# Altium schematic symbol library pyptec-Schlib_jp.SchLib: 316 symbols (part 2 of 7)
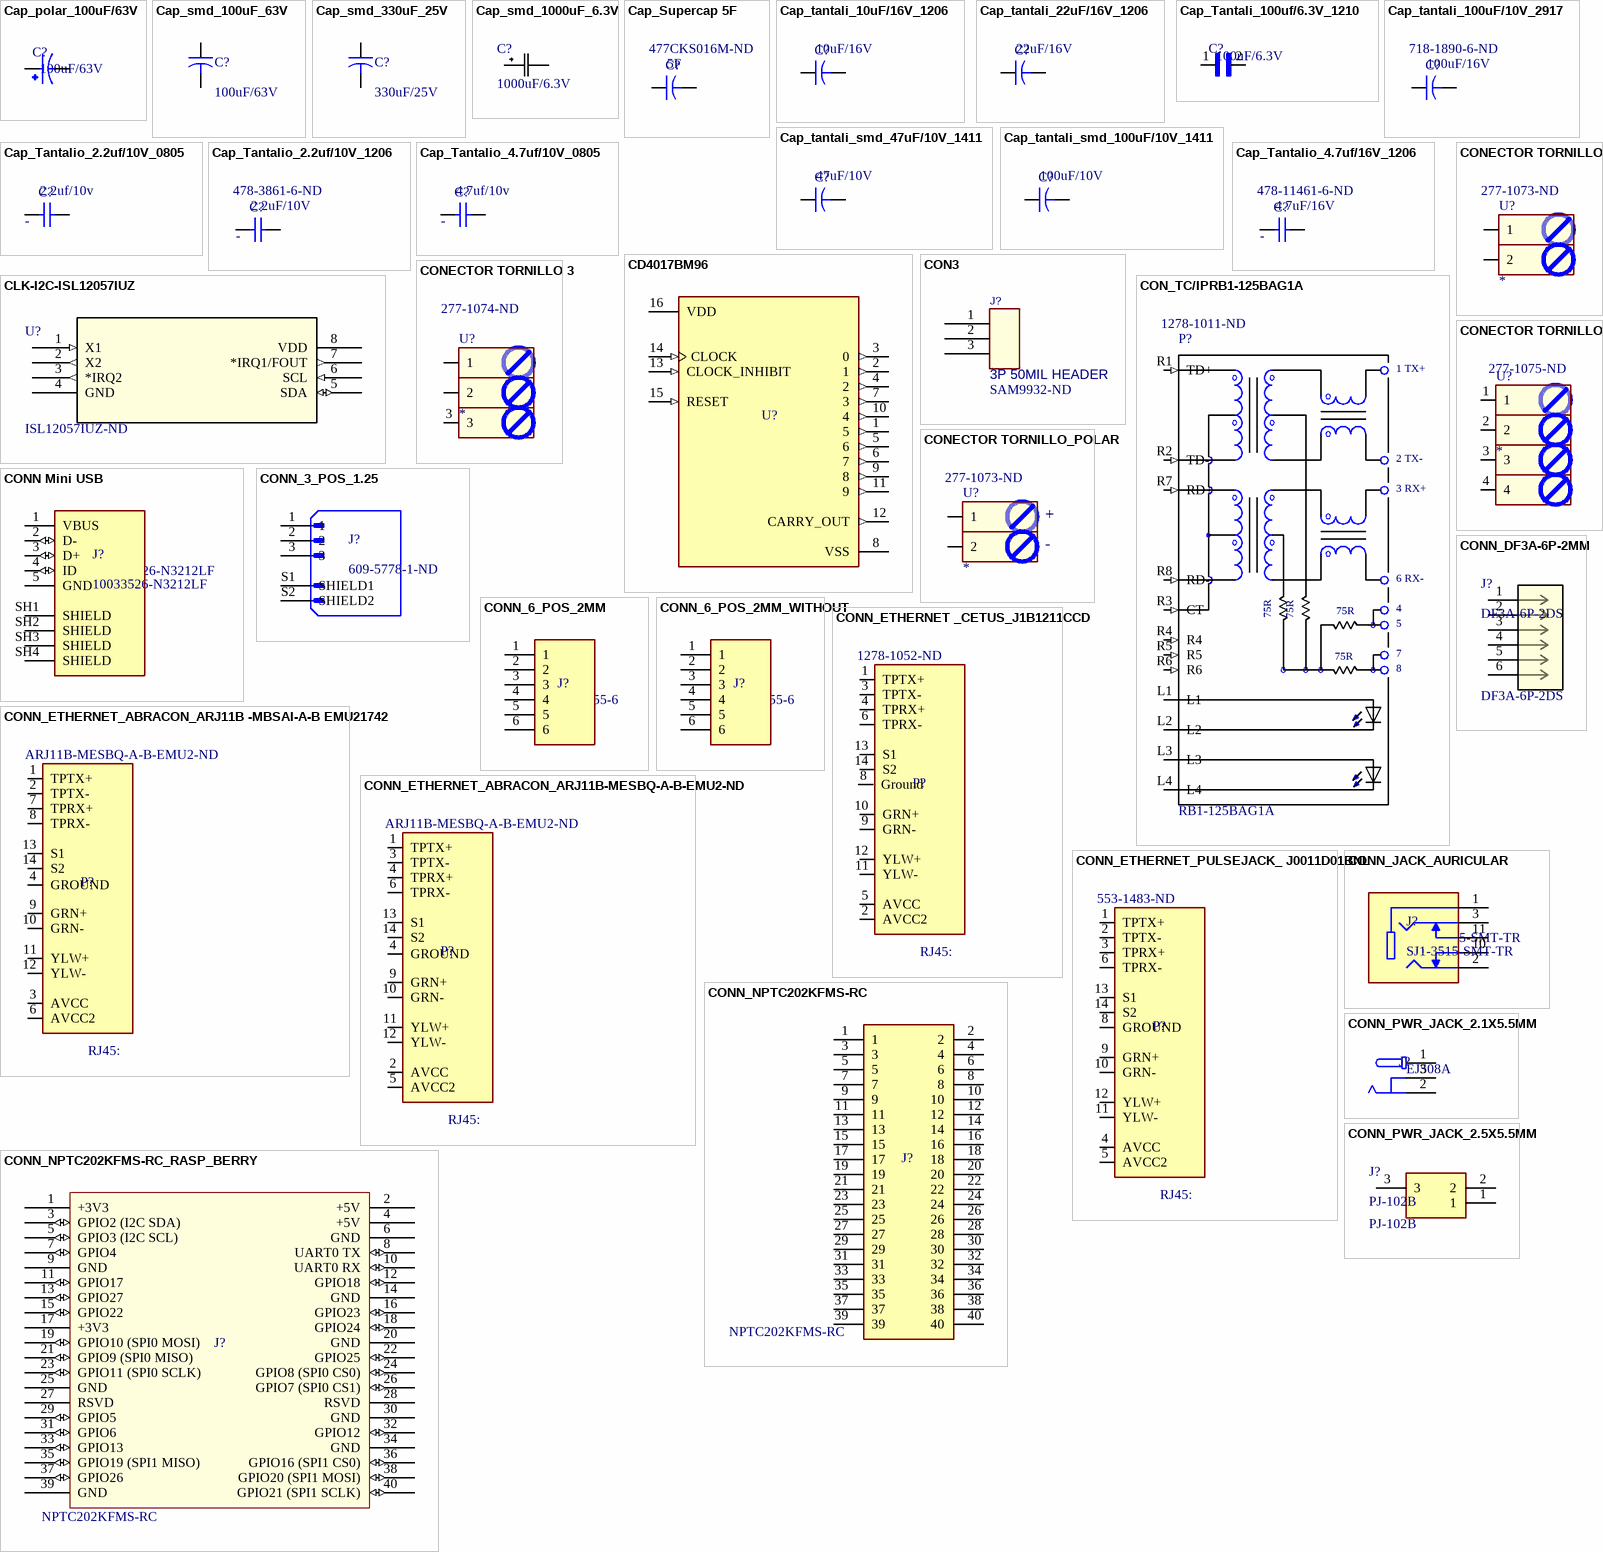
[diagram p11: symbols Cap_polar_100uF/63V to CONN_PWR_JACK_2.5X5.5MM]

## CLK-I2C-ISL12057IUZ
designator U?, comment value ISL12057IUZ-ND  (hidden comment: ISL12057IUZ)
Relojes de tiempo real (RTC) IC Reloj/calendario I2C, 2-Wire serial 8-TSSOP, 8-MSOP (0.118", 3.00mm de ancho); Mfr_Name: Renesas / Intersil; RefDes: RefDes; Type: Type; ComponentLink1Description: IC RTC CLK/CALENDAR I2C 8MSOP; ComponentLink1URL: https://www.digikey.com/es/products/detail/renesas-electronics-corporation/ISL12057IUZ/2096552; Link: https://www.digikey.com/es/products/detail/renesas-electronics-corporation/ISL12057IUZ/2096552; Digi_Key_Part_Number: ISL12057IUZ-ND; Price: 2,78
footprint 8L-MSOP_REN
pins: 1 X1 (in), 2 X2 (out), 3 *IRQ2 (out), 4 GND (power), 5 SDA (io), 6 SCL (in), 7 *IRQ1/FOUT (out), 8 VDD (power)

## CON3
designator J?, comment 3P 50MIL HEADER  Supplier Part Number 1: SAM9932-ND
COMPSIDE: TOP; COMPLOC: [730.000,710.000]; COMPROT: 0; COMPFIXED: NO; COMPHEIGHT: 0.000; COMPGROUP: 0; COMPLOCKED: NO; COMPKEY: NO; DECOUPLER: NO; MEMORY: NO; Supplier 1: Digi-Key
footprint 3P 50 MIL HEADER_RDS
pins: 1, 2, 3

## CON_TC/IPRB1-125BAG1A
designator P?, comment RB1-125BAG1A  Supplier Part Number 1: 1278-1011-ND
Accessory RJ-45 With Transformer Connector - UDE; MF: WIZnet; Shielding: Shielded; Connector Type: RJ45; Number of Ports: 1; Direction: Down; Number of Positions: 8; Insulation Resistance: 500MR; Number of Cores per Jack: 4; Availability: Unavailable; Price: None; Package: HVQFN-36 NXP Semiconductors; SnapEDA_Link: https://www.snapeda.com/parts/RB1-125BAG1A/WIZnet/view-part/?ref=snap; MP: RB1-125BAG1A; Value: *; Supplier 1: Digi-Key; Manufacturer: WIZnet; Manufacturer Part Number: RB1-125BAG1A; Stock 1: 11611; Pricing 1: 1=2.55, 10=2.448, 25=2.244, 50=2.142, 100=2.04, 250=1.785, 500=1.734, 1000=1.56 (USD); Mount: Through Hole; Case/Package: 100; Color: Green,Yellow,Black; Contact Material: Bronze; Contact Plating: Gold; Housing Material: Thermoplastic; Min Operating Temperature: 0°C; Max Operating Temperature: 70°C; Number of Rows: 1; Packaging: Bulk; Package Quantity: 420; Termination: Solder; Lead Free: Lead Free; ComponentLink1URL: http://www1.futureelectronics.com/doc/WIZNET%20INC/RB1-125BAG1A.pdf?src-supplier=Future+Electronics; ComponentLink1Description: http://www1.futureelectronics.com/doc/WIZNET%20INC/RB1-125BAG1A.pdf?src-supplier=Future+Electronics; ComponentLink2URL: http://www.jameco.com/Jameco/Products/ProdDS/2132875.pdf?src-supplier=Jameco; ComponentLink2Description: http://www.jameco.com/Jameco/Products/ProdDS/2132875.pdf?src-supplier=Jameco; ComponentLink3URL: https://www.shopwiznet.com/lanotattachments/download/file/id/95/store/1/?src-supplier=Digi-Key; ComponentLink3Description: https://www.shopwiznet.com/lanotattachments/download/file/id/95/store/1/?src-supplier=Digi-Key; ComponentLink4URL: http://www.mouser.com/ds/2/443/RB1-125BAG1A(111-00)-224696.pdf?src-supplier=Mouser; ComponentLink4Description: http://www.mouser.com/ds/2/443/RB1-125BAG1A(111-00)-224696.pdf?src-supplier=Mouser
footprint J1B1211CCD
pins: L1, L2, L3, L4, R1 TD+ (in), R2 TD- (in), R3 CT (in), R4 (in), R5 (in), R6 (in), R7 RD+ (in), R8 RD- (in)
text: 1 TX+; 2 TX-; 3 RX+; 6 RX-; 75R; 5; 7

## CONECTOR TORNILLO 2
designator U?  Supplier Part Number 1: 277-1073-ND
Manufacturer: Phoenix Contact; Manufacturer Part Number: 1753437; Current Rating: 12A; Voltage Rating: 250V; Number of Positions: 2; Number of Levels: 1; Voltage: 300V; Voltage Rating (DC): 400V; Pitch: 5mm; Approvals: UL,CSA; Supplier 1: Digi-Key; Stock 1: 7580; Pricing 1: 1=0.72, 10=0.688, 50=0.6584, 100=0.6404, 250=0.59852, 500=0.55062, 1000=0.50873, 2500=0.48479, 5000=0.45486 (USD); Mount: Through Hole; Weight: 0.037778oz; Color: Grey,Green; Contact Plating: Tin; Contact Material: Copper,Tin; Housing Color: Green; Housing Material: Polybutylene; Number of Rows: 1; Package Quantity: 50; Packaging: Bulk; Termination: Solder; Number of Positions Per Level: 2; Current: 12A; Max Current Rating: 12A; Number of Contacts: 2; Orientation: Straight; Number of Poles: 2; Length: 10mm; Height: 10mm; Width: 15.9mm; Depth: 8.6mm; Lead Free: Lead Free; Flammability Rating: UL94 V-0; ComponentLink1URL: https://www.verical.com/server-webapp/html/getDatasheet?partID=294641&src-supplier=Verical; ComponentLink1Description: https://www.verical.com/server-webapp/html/getDatasheet?partID=294641&src-supplier=Verical; ComponentLink2URL: https://media.digikey.com/pdf/Data%20Sheets/Phoenix%20Contact%20PDFs/1753437.pdf?src-supplier=Digi-Key; ComponentLink2Description: https://media.digikey.com/pdf/Data%20Sheets/Phoenix%20Contact%20PDFs/1753437.pdf?src-supplier=Digi-Key; ComponentLink3URL: https://produktinfo.conrad.com/datenblaetter/725000-749999/743815-da-01-en-GRUNDGEHAEUSE__MSTBV_2_5__2_G.pdf?src-supplier=Conrad; ComponentLink3Description: https://produktinfo.conrad.com/datenblaetter/725000-749999/743815-da-01-en-GRUNDGEHAEUSE__MSTBV_2_5__2_G.pdf?src-supplier=Conrad
footprint 277-1140 (TERM BLOCK 2POS)
pins: 1, 2

## CONECTOR TORNILLO 3
designator U?  Supplier Part Number 1: 277-1074-ND
Manufacturer: Phoenix Contact; Manufacturer Part Number: 1753437; Current Rating: 12A; Voltage Rating: 250V; Number of Positions: 2; Number of Levels: 1; Voltage: 300V; Voltage Rating (DC): 400V; Pitch: 5mm; Approvals: UL,CSA; Mount: Through Hole; Weight: 0.037778oz; Color: Grey,Green; Contact Plating: Tin; Contact Material: Copper,Tin; Housing Color: Green; Housing Material: Polybutylene; Number of Rows: 1; Package Quantity: 50; Packaging: Bulk; Termination: Solder; Number of Positions Per Level: 2; Current: 12A; Max Current Rating: 12A; Number of Contacts: 2; Orientation: Straight; Number of Poles: 2; Length: 10mm; Height: 10mm; Width: 15.9mm; Depth: 8.6mm; Lead Free: Lead Free; Flammability Rating: UL94 V-0; ComponentLink1URL: https://www.verical.com/server-webapp/html/getDatasheet?partID=294641&src-supplier=Verical; ComponentLink1Description: https://www.verical.com/server-webapp/html/getDatasheet?partID=294641&src-supplier=Verical; ComponentLink2URL: https://media.digikey.com/pdf/Data%20Sheets/Phoenix%20Contact%20PDFs/1753437.pdf?src-supplier=Digi-Key; ComponentLink2Description: https://media.digikey.com/pdf/Data%20Sheets/Phoenix%20Contact%20PDFs/1753437.pdf?src-supplier=Digi-Key; ComponentLink3URL: https://produktinfo.conrad.com/datenblaetter/725000-749999/743815-da-01-en-GRUNDGEHAEUSE__MSTBV_2_5__2_G.pdf?src-supplier=Conrad; ComponentLink3Description: https://produktinfo.conrad.com/datenblaetter/725000-749999/743815-da-01-en-GRUNDGEHAEUSE__MSTBV_2_5__2_G.pdf?src-supplier=Conrad; Supplier 1: Digi-Key; Stock 1: 2384; Pricing 1: 1=1.06, 10=1.014, 50=0.9702, 100=0.9437, 250=0.882, 500=0.81144, 1000=0.7497, 2500=0.71442, 5000=0.67032 (USD); ComponentLink4URL: https://media.digikey.com/pdf/Data%20Sheets/Phoenix%20Contact%20PDFs/1753453.pdf?src-supplier=Digi-Key; ComponentLink4Description: https://media.digikey.com/pdf/Data%20Sheets/Phoenix%20Contact%20PDFs/1753453.pdf?src-supplier=Digi-Key; ComponentLink5URL: https://www.alliedelec.com/m/d/04bf1952d21caef77442e0e02da47893.pdf?src-supplier=Allied+Electronics; ComponentLink5Description: https://www.alliedelec.com/m/d/04bf1952d21caef77442e0e02da47893.pdf?src-supplier=Allied+Electronics; ComponentLink6URL: https://produktinfo.conrad.com/datenblaetter/725000-749999/743827-da-01-en-GRUNDGEHAEUSE__MSTBV_2_5__3_G.pdf?src-supplier=Conrad; ComponentLink6Description: https://produktinfo.conrad.com/datenblaetter/725000-749999/743827-da-01-en-GRUNDGEHAEUSE__MSTBV_2_5__3_G.pdf?src-supplier=Conrad
footprint 277-1141 (TERM BLOCK HDR 3POS)
pins: 1, 2, 3

## CONECTOR TORNILLO 4
designator U?  Supplier Part Number 1: 277-1075-ND
Manufacturer: Phoenix Contact; Manufacturer Part Number: 1753437; Current Rating: 12A; Voltage Rating: 250V; Number of Positions: 2; Number of Levels: 1; Voltage: 300V; Voltage Rating (DC): 400V; Pitch: 5mm; Approvals: UL,CSA; Mount: Through Hole; Weight: 0.037778oz; Color: Grey,Green; Contact Plating: Tin; Contact Material: Copper,Tin; Housing Color: Green; Housing Material: Polybutylene; Number of Rows: 1; Package Quantity: 50; Packaging: Bulk; Termination: Solder; Number of Positions Per Level: 2; Current: 12A; Max Current Rating: 12A; Number of Contacts: 2; Orientation: Straight; Number of Poles: 2; Length: 10mm; Height: 10mm; Width: 15.9mm; Depth: 8.6mm; Lead Free: Lead Free; Flammability Rating: UL94 V-0; ComponentLink1URL: https://www.verical.com/server-webapp/html/getDatasheet?partID=294641&src-supplier=Verical; ComponentLink1Description: https://www.verical.com/server-webapp/html/getDatasheet?partID=294641&src-supplier=Verical; ComponentLink2URL: https://media.digikey.com/pdf/Data%20Sheets/Phoenix%20Contact%20PDFs/1753437.pdf?src-supplier=Digi-Key; ComponentLink2Description: https://media.digikey.com/pdf/Data%20Sheets/Phoenix%20Contact%20PDFs/1753437.pdf?src-supplier=Digi-Key; ComponentLink3URL: https://produktinfo.conrad.com/datenblaetter/725000-749999/743815-da-01-en-GRUNDGEHAEUSE__MSTBV_2_5__2_G.pdf?src-supplier=Conrad; ComponentLink3Description: https://produktinfo.conrad.com/datenblaetter/725000-749999/743815-da-01-en-GRUNDGEHAEUSE__MSTBV_2_5__2_G.pdf?src-supplier=Conrad; ComponentLink4URL: https://www.verical.com/server-webapp/html/getDatasheet?partID=247903&src-supplier=Verical; ComponentLink4Description: https://www.verical.com/server-webapp/html/getDatasheet?partID=247903&src-supplier=Verical; ComponentLink5URL: https://media.digikey.com/pdf/Data%20Sheets/Phoenix%20Contact%20PDFs/1754478.pdf?src-supplier=Digi-Key; ComponentLink5Description: https://media.digikey.com/pdf/Data%20Sheets/Phoenix%20Contact%20PDFs/1754478.pdf?src-supplier=Digi-Key; ComponentLink6URL: https://produktinfo.conrad.com/datenblaetter/725000-749999/743854-da-01-en-GRUNDGEHAEUSE__MSTB_2_5__4_G.pdf?src-supplier=Conrad; ComponentLink6Description: https://produktinfo.conrad.com/datenblaetter/725000-749999/743854-da-01-en-GRUNDGEHAEUSE__MSTB_2_5__4_G.pdf?src-supplier=Conrad; Supplier 1: Digi-Key; Stock 1: 3061; Pricing 1: 1=1.45, 10=1.389, 50=1.3282, 100=1.292, 250=1.20752, 500=1.1109, 1000=1.02637, 2500=0.97807, 5000=0.9177 (USD); ComponentLink7URL: https://media.digikey.com/pdf/Data%20Sheets/Phoenix%20Contact%20PDFs/1753479.pdf?src-supplier=Digi-Key; ComponentLink7Description: https://media.digikey.com/pdf/Data%20Sheets/Phoenix%20Contact%20PDFs/1753479.pdf?src-supplier=Digi-Key; ComponentLink8URL: https://www.verical.com/server-webapp/html/getDatasheet?partID=717945&src-supplier=Verical; ComponentLink8Description: https://www.verical.com/server-webapp/html/getDatasheet?partID=717945&src-supplier=Verical; ComponentLink9URL: https://produktinfo.conrad.com/datenblaetter/725000-749999/743463-da-01-en-GRUNDGEHAEUSE___MSTBV_2_5__4_G.pdf?src-supplier=Conrad; ComponentLink9Description: https://produktinfo.conrad.com/datenblaetter/725000-749999/743463-da-01-en-GRUNDGEHAEUSE___MSTBV_2_5__4_G.pdf?src-supplier=Conrad
footprint 277-1075 (TERM BLOCK HDR 3POS)
pins: 1, 2, 3, 4

## CONECTOR TORNILLO_POLAR
designator U?  Supplier Part Number 1: 277-1073-ND
Manufacturer: Phoenix Contact; Manufacturer Part Number: 1753437; Current Rating: 12A; Voltage Rating: 250V; Number of Positions: 2; Number of Levels: 1; Voltage: 300V; Voltage Rating (DC): 400V; Pitch: 5mm; Approvals: UL,CSA; Supplier 1: Digi-Key; Stock 1: 7580; Pricing 1: 1=0.72, 10=0.688, 50=0.6584, 100=0.6404, 250=0.59852, 500=0.55062, 1000=0.50873, 2500=0.48479, 5000=0.45486 (USD); Mount: Through Hole; Weight: 0.037778oz; Color: Grey,Green; Contact Plating: Tin; Contact Material: Copper,Tin; Housing Color: Green; Housing Material: Polybutylene; Number of Rows: 1; Package Quantity: 50; Packaging: Bulk; Termination: Solder; Number of Positions Per Level: 2; Current: 12A; Max Current Rating: 12A; Number of Contacts: 2; Orientation: Straight; Number of Poles: 2; Length: 10mm; Height: 10mm; Width: 15.9mm; Depth: 8.6mm; Lead Free: Lead Free; Flammability Rating: UL94 V-0; ComponentLink1URL: https://www.verical.com/server-webapp/html/getDatasheet?partID=294641&src-supplier=Verical; ComponentLink1Description: https://www.verical.com/server-webapp/html/getDatasheet?partID=294641&src-supplier=Verical; ComponentLink2URL: https://media.digikey.com/pdf/Data%20Sheets/Phoenix%20Contact%20PDFs/1753437.pdf?src-supplier=Digi-Key; ComponentLink2Description: https://media.digikey.com/pdf/Data%20Sheets/Phoenix%20Contact%20PDFs/1753437.pdf?src-supplier=Digi-Key; ComponentLink3URL: https://produktinfo.conrad.com/datenblaetter/725000-749999/743815-da-01-en-GRUNDGEHAEUSE__MSTBV_2_5__2_G.pdf?src-supplier=Conrad; ComponentLink3Description: https://produktinfo.conrad.com/datenblaetter/725000-749999/743815-da-01-en-GRUNDGEHAEUSE__MSTBV_2_5__2_G.pdf?src-supplier=Conrad
footprint 277-1140 (TERM BLOCK 2POS)
pins: 1, 2
text: +; -

## CONN Mini USB
designator J?, comment 10033526-N3212LF
MINI USB 2.0- B Type Receptacle conn. Right Angle Surface Mount Type; Digi_Key_Part_Number: 609-4700-1-ND; SnapEDA_Link: https://www.snapeda.com/parts/10033526-N3212LF/Amphenol+FCI/view-part/?ref=snap; Price: 0,75; MP: 10033526-N3212LF; Link: https://www.digikey.com/en/products/detail/amphenol-cs-fci/10033526-N3212LF/4292074?s=N4IgTCBcDaIIwAYEGZkFYwDYC0A5ZYcYAMgGIgC6AvkA; ComponentLink1Description: CONN RCPT MINI USB B 5POS SMD RA; ComponentLink1URL: https://www.digikey.com/en/products/detail/amphenol-cs-fci/10033526-N3212LF/4292074?s=N4IgTCBcDaIIwAYEGZkFYwDYC0A5ZYcYAMgGIgC6AvkA; Value: 10033526-N3212LF
footprint AMPHENOL_10033526-N3212LF
pins: 1 VBUS (power), 2 D- (io), 3 D+ (io), 4 ID (io), 5 GND (power), SH1 SHIELD, SH2 SHIELD, SH3 SHIELD, SH4 SHIELD

## CONN_3_POS_1.25
designator J?, comment 609-5778-1-ND
Cabezal de conector Montaje en superficie, ángulo recto 3 posiciones 0.049" (1.25mm); MF: Molex; MP: 532610371; Check_prices: https://www.snapeda.com/parts/532610371/Molex/view-part/?ref=eda; Value: *; Price: None; Package: None; Availability: In Stock; Purchase-URL: https://pricing.snapeda.com/search/part/532610371/?ref=eda; SnapEDA_Link: https://www.snapeda.com/parts/532610371/Molex/view-part/?ref=snap; ComponentLink1Description: CONN HEADER SMD R/A 3POS 1.25MM; ComponentLink1URL: https://www.digikey.com/es/products/detail/amphenol-cs-fci/10114830-10103LF/4238857; Link: https://www.digikey.com/es/products/detail/amphenol-cs-fci/10114830-10103LF/4238857; Digi_Key_Part_Number: 609-5778-1-ND
footprint MOLEX_532610371
pins: 1, 2, 3, S1 SHIELD1, S2 SHIELD2

## CONN_6_POS_2MM
designator J?, comment 440055-6
Cabezal de conector Orificio pasante, ángulo recto 6 posiciones 0.079" (2.00mm); Digi_Key_Part_Number: A100047-ND; MF: {'manufacturer': 'TE Connectivity'}; Package: None; Availability: Unavailable; MP: 440055-6; Price: 0,29; ComponentLink1Description: CONN HEADER R/A 6POS 2MM; ComponentLink1URL: https://www.digikey.com/es/products/detail/te-connectivity-amp-connectors/440055-6/2077950; Link: https://www.digikey.com/es/products/detail/te-connectivity-amp-connectors/440055-6/2077950; Value: 440055-6
footprint TE_440055-6
pins: 1, 2, 3, 4, 5, 6

## CONN_6_POS_2MM_WITHOUT
designator J?, comment 440055-6
Cabezal de conector Orificio pasante, ángulo recto 6 posiciones 0.079" (2.00mm); Digi_Key_Part_Number: A100047-ND; MF: {'manufacturer': 'TE Connectivity'}; Package: None; Availability: Unavailable; MP: 440055-6; Price: 0,29; ComponentLink1Description: CONN HEADER R/A 6POS 2MM; ComponentLink1URL: https://www.digikey.com/es/products/detail/te-connectivity-amp-connectors/440055-6/2077950; Link: https://www.digikey.com/es/products/detail/te-connectivity-amp-connectors/440055-6/2077950; Value: 440055-6
footprint TE_440055-6WITHOUT
pins: 1, 2, 3, 4, 5, 6

## CONN_DF3A-6P-2MM
designator J?, comment DF3A-6P-2DS
Cabezal de conector Orificio pasante, ángulo recto 6 posiciones 0.079" (2.00mm); Mfr_Name: Hirose; Digi_Key_Part_Number: H3897-ND; RefDes: RefDes; Type: Type; ComponentLink1Description: CONN HEADER R/A 6POS 2MM; ComponentLink1URL: https://www.digikey.com/es/products/detail/hirose-electric-co-ltd/DF3A-6P-2DS/560463; Link: https://www.digikey.com/es/products/detail/hirose-electric-co-ltd/DF3A-6P-2DS/560463; Price: 0,33; Value: DF3A-6P-2DS
footprint CON6_1X6_R_DF3_HIR
pins: 1, 2, 3, 4, 5, 6

## CONN_ETHERNET _CETUS_J1B1211CCD
designator P?, comment 1278-1052-ND
1 Puerto RJ45Orificio pasante 10/100 Base-T, AutoMDIX; MF: Ceetus; MP: J1B1211CCD; Value: *; Package: None; Availability: Warning; Price: None; Supplier 1: Digi-Key; ComponentLink1Description: CONN JACK 1PORT 100 BASE-T PCB; ComponentLink1URL: 1 Puerto RJ45Orificio pasante 10/100 Base-T, AutoMDIX; Link: https://www.digikey.com/es/products/detail/J1B1211CCD/1278-1052-ND/7604176?utm_campaign=buynow&utm_medium=aggregator&curr=usd&utm_source=octopart; Digi-Key_Part_Number: 1278-1052-ND; Supplier Part Number 1: 1278-1052-ND
footprint J1B1211CCD
pins: 1 TPTX+, 2 AVCC2, 3 TPTX-, 4 TPRX+, 5 AVCC, 6 TPRX-, 8 Ground, 9 GRN-, 10 GRN+, 11 YLW-, 12 YLW+, 13 S1, 14 S2

## CONN_ETHERNET_ABRACON_ARJ11B -MBSAI-A-B EMU21742
designator P?, comment Supplier Part Number 1: ARJ11B-MESBQ-A-B-EMU2-ND  (hidden comment: 1278-1052-ND)
1 Puerto RJ45Orificio pasante 10/100 Base-T, AutoMDIX; MF: Abracon LLC; MP: ARJ11B-MBSAI-A-B-EMU2; Value: *; Package: None; Availability: Warning; Price: None; Supplier 1: Digi-Key; ComponentLink1Description: ARJ11B-MBSAI-A-B-EMU2; ComponentLink1URL: https://www.digikey.com/es/products/detail/abracon-llc/ARJ11B-MBSAI-A-B-EMU2/3059354; Link: https://www.digikey.com/es/products/detail/abracon-llc/ARJ11B-MBSAI-A-B-EMU2/3059354; Digi-Key_Part_Number: ARJ11B-MBSAI-A-B-EMU2-ND
footprint J1B1211CCD
pins: 1 TPTX+, 2 TPTX-, 3 AVCC, 4 GROUND, 6 AVCC2, 7 TPRX+, 8 TPRX-, 9 GRN+, 10 GRN-, 11 YLW+, 12 YLW-, 13 S1, 14 S2

## CONN_ETHERNET_ABRACON_ARJ11B-MESBQ-A-B-EMU2-ND
designator P?, comment Supplier Part Number 1: ARJ11B-MESBQ-A-B-EMU2-ND  (hidden comment: 1278-1052-ND)
1 Puerto RJ45Orificio pasante 10/100 Base-T, AutoMDIX; MF: Abracon LLC; MP: ARJ11B-MESBQ-A-B-EMU2; Value: *; Package: None; Availability: Warning; Price: None; ComponentLink1Description: ARJ11B-MESBQ-A-B-EMU2; ComponentLink1URL: https://www.digikey.com/es/products/detail/ARJ11B-MESBQ-A-B-EMU2/ARJ11B-MESBQ-A-B-EMU2-ND/3059340?utm_campaign=buynow&utm_medium=aggregator&curr=usd&utm_source=octopart; Digi-Key_Part_Number: ARJ11B-MESBQ-A-B-EMU2-ND; Link: https://www.digikey.com/es/products/detail/ARJ11B-MESBQ-A-B-EMU2/ARJ11B-MESBQ-A-B-EMU2-ND/3059340?utm_campaign=buynow&utm_medium=aggregator&curr=usd&utm_source=octopart
footprint J1B1211CCD
pins: 1 TPTX+, 2 AVCC, 3 TPTX-, 4 TPRX+, 4 GROUND, 5 AVCC2, 6 TPRX-, 9 GRN+, 10 GRN-, 11 YLW+, 12 YLW-, 13 S1, 14 S2

## CONN_ETHERNET_PULSEJACK_ J0011D01BNL
designator P?, comment Supplier Part Number 1: 553-1483-ND  (hidden comment: 1278-1052-ND)
1 Puerto RJ45Orificio pasante 10/100 Base-T, AutoMDIX; MF: Ceetus; MP: J1B1211CCD; Value: *; Package: None; Availability: Warning; SnapEDA_Link: https://www.snapeda.com/parts/J1B1211CCD/Cetus/view-part/561300/?ref=snap; Mouser-Purchase-URL: https://snapeda.com/shop?store=Mouser&id=561300; Price: None; Supplier 1: Digi-Key; Digi-Key_Part_Number: 553-1483-ND; Link: https://www.digikey.com/es/products/detail/pulse-electronics/j0011d01bnl/1036891; ComponentLink1Description: CONN JACK 1PORT 100 BASE-TX PCB J0011D01BNL; ComponentLink1URL: https://www.digikey.com/es/products/detail/pulse-electronics/j0011d01bnl/1036891
footprint J1B1211CCD
pins: 1 TPTX+, 2 TPTX-, 3 TPRX+, 4 AVCC, 5 AVCC2, 6 TPRX-, 8 GROUND, 9 GRN+, 10 GRN-, 11 YLW-, 12 YLW+, 13 S1, 14 S2

## CONN_JACK_AURICULAR
designator J?, comment SJ1-3515-SMT-TR
Auricular de 3.50mm (0.141", 1/8", mini clavija) Jack telefónico Estéreo (3 conductores, TRS) Conector Soldadura; Digi_Key_Part_Number: CP1-3515SJCT-ND; Link: https://www.digikey.com/es/products/detail/cui-devices/SJ1-3515-SMT-TR/659917; Package: None; CUI_purchase_URL: https://www.cuidevices.com/product/interconnect/connectors/audio-connectors/jacks/sj1-3515-smt-tr?utm_source=snapeda.com&utm_medium=referral&utm_campaign=snapedaBOM; MP: SJ1-3515-SMT-TR; Check_prices: https://www.snapeda.com/parts/SJ1-3515-SMT-TR/CUI+Devices/view-part/?ref=eda; ComponentLink1Description: CONN JACK STEREO 3.5MM SMD R/A; ComponentLink1URL: https://www.digikey.com/es/products/detail/cui-devices/SJ1-3515-SMT-TR/659917; Price: 1,21; Value: SJ1-3515-SMT-TR
footprint CUI_SJ1-3515-SMT-TR
pins: 1, 2, 3, 10, 11

## CONN_NPTC202KFMS-RC
designator J?, comment NPTC202KFMS-RC
40 Posiciones Cabecera Conector 0.100" (2.54mm) Montaje en superficie Estaño; Digi_Key_Part_Number: S5690-ND; Link: https://www.digikey.com/es/products/detail/sullins-connector-solutions/NPTC202KFMS-RC/776149; Price: 4,26; ComponentLink1Description: CONN HDR 40POS 0.1 TIN SMD; ComponentLink1URL: https://www.digikey.com/es/products/detail/sullins-connector-solutions/NPTC202KFMS-RC/776149; Value: NPTC202KFMS-RC
footprint SULLINS_NPTC202KFMS-RC
pins: 1, 2, 3, 4, 5, 6, 7, 8, 9, 10, 11, 12, 13, 14, 15, 16, 17, 18, 19, 20, 21, 22, 23, 24, 25, 26, 27, 28, 29, 30, 31, 32, 33, 34, 35, 36, 37, 38, 39, 40

## CONN_NPTC202KFMS-RC_RASP_BERRY
designator J?, comment NPTC202KFMS-RC
40 Posiciones Cabecera Conector 0.100" (2.54mm) Montaje en superficie Estaño; Digi_Key_Part_Number: S5690-ND; Link: https://www.digikey.com/es/products/detail/sullins-connector-solutions/NPTC202KFMS-RC/776149; Price: 4,26; ComponentLink1Description: CONN HDR 40POS 0.1 TIN SMD; ComponentLink1URL: https://www.digikey.com/es/products/detail/sullins-connector-solutions/NPTC202KFMS-RC/776149; Price JLCPCB: 0,49; LCSC Part: C22436166; Value: NPTC202KFMS-RC
footprint SULLINS_NPTC202KFMS-RC
pins: 1 +3V3 (power), 2 +5V (power), 3 GPIO2 (I2C SDA) (io), 4 +5V (power), 5 GPIO3 (I2C SCL) (io), 6 GND (power), 7 GPIO4 (io), 8 UART0 TX (io), 9 GND (power), 10 UART0 RX (io), 11 GPIO17 (io), 12 GPIO18 (io), 13 GPIO27 (io), 14 GND (power), 15 GPIO22 (io), 16 GPIO23 (io), 17 +3V3 (power), 18 GPIO24 (io), 19 GPIO10 (SPI0 MOSI) (io), 20 GND (power), 21 GPIO9 (SPI0 MISO) (io), 22 GPIO25 (io), 23 GPIO11 (SPI0 SCLK) (io), 24 GPIO8 (SPI0 CS0) (io), 25 GND (power), 26 GPIO7 (SPI0 CS1) (io), 27 RSVD, 28 RSVD, 29 GPIO5 (io), 30 GND (power), 31 GPIO6 (io), 32 GPIO12 (io), 33 GPIO13 (io), 34 GND, 35 GPIO19 (SPI1 MISO) (io), 36 GPIO16 (SPI1 CS0) (io), 37 GPIO26 (io), 38 GPIO20 (SPI1 MOSI) (io), 39 GND (power), 40 GPIO21 (SPI1 SCLK) (io)

## CONN_PWR_JACK_2.1X5.5MM
designator J?, comment EJ508A
Power Barrel Connector Jack 2.10mm ID _0.083_, 5.50mm OD _0.217_ Through Hole, Right Angle; Digi_Key_Part_Number: EJ508A-ND; MF: MPD; Package: Non-Standard MPD; SnapEDA_Link: https://www.snapeda.com/parts/EJ508A/MPD%20%28Memory%20Protection%20Devices%29/view-part/474399/?ref=snap; Price: None; MP: EJ508A; Availability: Unavailable; ComponentLink1Description: EJ508A; ComponentLink1URL: https://www.digikey.com/es/products/detail/mpd-memory-protection-devices/EJ508A/2439547; Link: https://www.digikey.com/es/products/detail/mpd-memory-protection-devices/EJ508A/2439547; Value: EJ508A
footprint MPD_EJ508A
pins: 1, 2, 3

## CONN_PWR_JACK_2.5X5.5MM
designator J?, comment PJ-102B
Cilindro - Conectores de potencia Jack 2.50mm DI (0.098"), 5.50mm DE (0.217") Orificio pasante, ángulo recto; Manufacturer_Name: CUI Devices; Manufacturer_Part_Number: PJ-102BH; Digi_Key_Part_Number: CP-102B-ND; Datasheet Link: https://componentsearchengine.com/Datasheets/1/PJ-102BH.pdf; Mouser Part Number: 490-PJ-102BH; Mouser Price/Stock: https://www.mouser.co.uk/ProductDetail/CUI-Devices/PJ-102BH?qs=WyjlAZoYn51LQvDYqCqBtA%3D%3D; Arrow Part Number: PJ-102BH; Arrow Price/Stock: https://www.arrow.com/en/products/pj-102bh/cui-devices?region=nac; ComponentLink1Description: PJ-102B; ComponentLink1URL: https://www.digikey.com/es/products/detail/cui-devices/PJ-102B/281307; Link: https://www.digikey.com/es/products/detail/cui-devices/PJ-102B/281307; Value: PJ-102B
footprint PJ-102AH
pins: 1, 2, 3

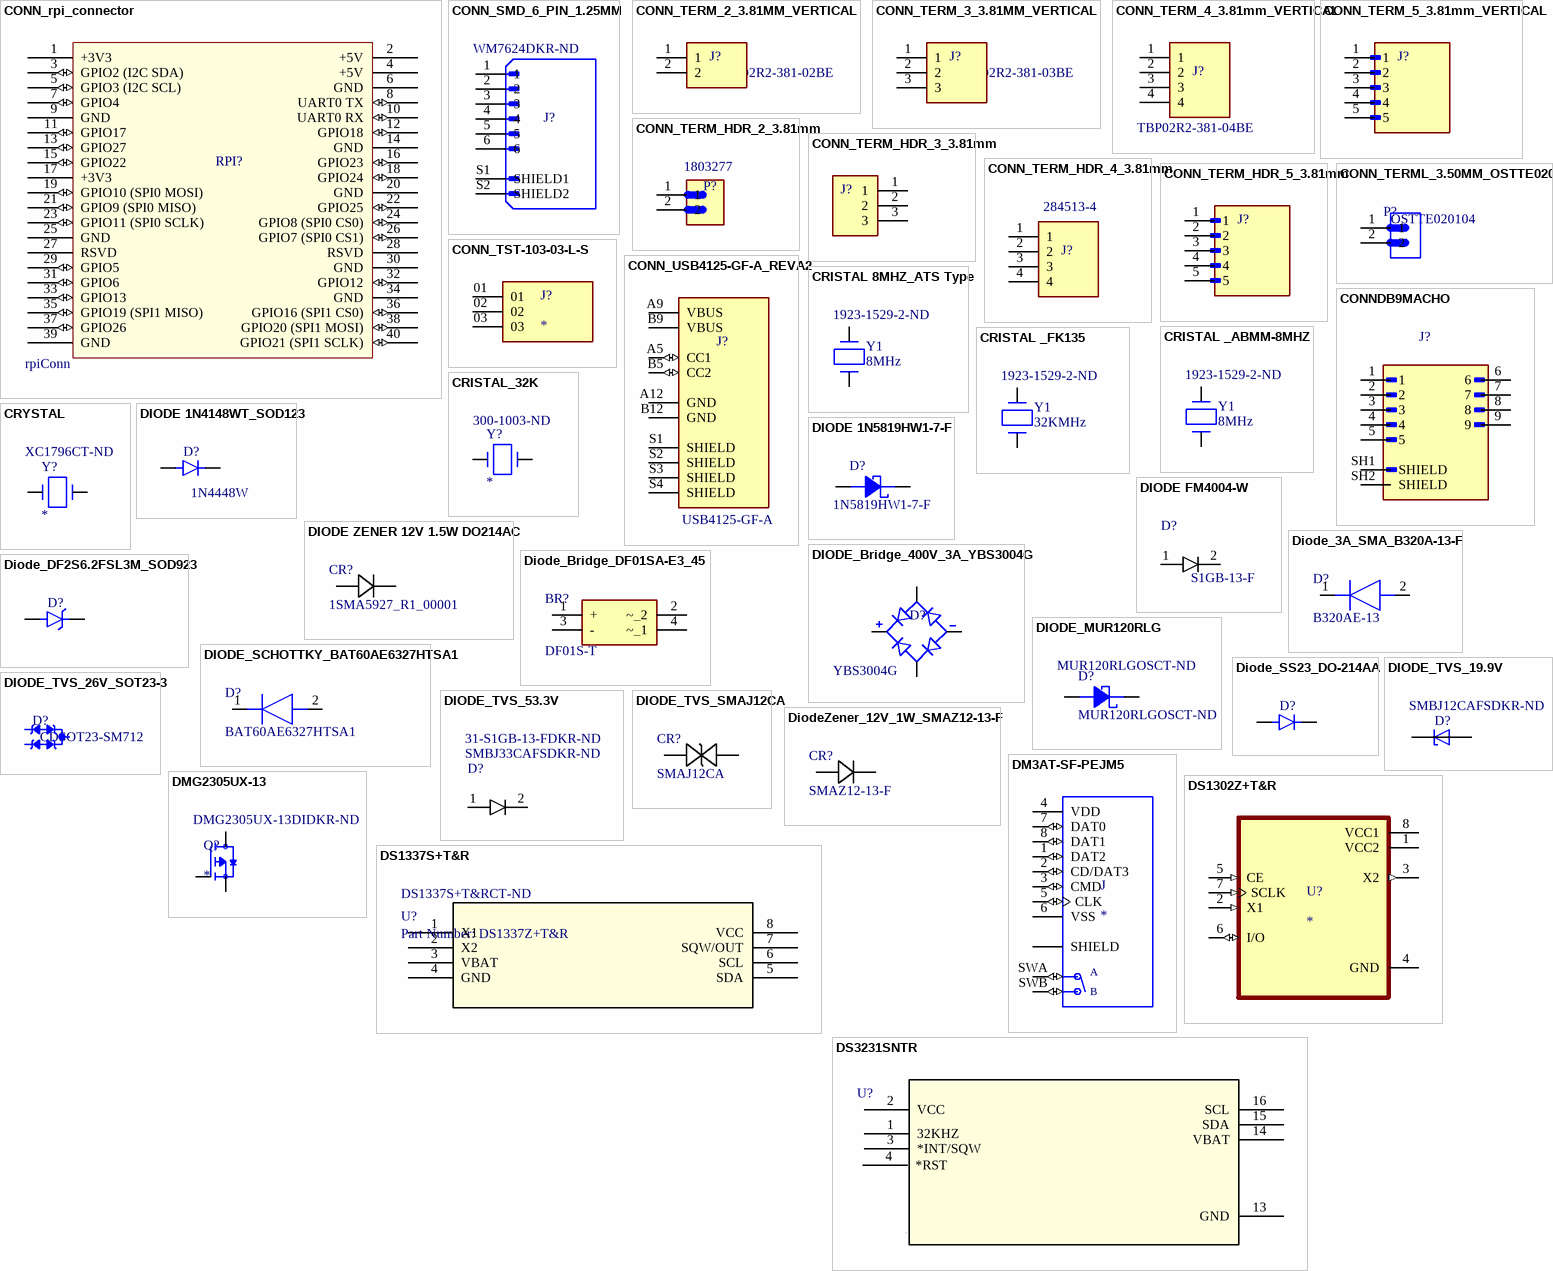
[diagram p2: symbols CONN_rpi_connector to DS3231SNTR]

## CONN_rpi_connector
designator RPI?, comment value rpiConn  (hidden comment: ESQ-120-14-T-D)
40 Position Elevated Socket Connector 0.100" (2.54mm) Through Hole Tin; Digi_Key_Part_Number: SAM11108-ND; Link: https://www.digikey.com/en/products/detail/samtec-inc/ESQ-120-14-T-D/6693975; Price: 5,84; ComponentLink1Description: CONN SOCKET 40POS 0.1 TIN PCB; ComponentLink1URL: https://www.digikey.com/en/products/detail/samtec-inc/ESQ-120-14-T-D/6693975
footprint SAMTEC_ESQ-120-XX-X-D-XX
pins: 1 +3V3 (power), 2 +5V (power), 3 GPIO2 (I2C SDA) (io), 4 +5V (power), 5 GPIO3 (I2C SCL) (io), 6 GND (power), 7 GPIO4 (io), 8 UART0 TX (io), 9 GND (power), 10 UART0 RX (io), 11 GPIO17 (io), 12 GPIO18 (io), 13 GPIO27 (io), 14 GND (power), 15 GPIO22 (io), 16 GPIO23 (io), 17 +3V3 (power), 18 GPIO24 (io), 19 GPIO10 (SPI0 MOSI) (io), 20 GND (power), 21 GPIO9 (SPI0 MISO) (io), 22 GPIO25 (io), 23 GPIO11 (SPI0 SCLK) (io), 24 GPIO8 (SPI0 CS0) (io), 25 GND (power), 26 GPIO7 (SPI0 CS1) (io), 27 RSVD, 28 RSVD, 29 GPIO5 (io), 30 GND (power), 31 GPIO6 (io), 32 GPIO12 (io), 33 GPIO13 (io), 34 GND, 35 GPIO19 (SPI1 MISO) (io), 36 GPIO16 (SPI1 CS0) (io), 37 GPIO26 (io), 38 GPIO20 (SPI1 MOSI) (io), 39 GND (power), 40 GPIO21 (SPI1 SCLK) (io)

## CONN_SMD_6_PIN_1.25MM
designator J?, comment Supplier Part Number 1: WM7624DKR-ND  (hidden comment: 532610671)
Connector Header Surface Mount, Right Angle 6 position 0.049 (1.25mm); MF: Molex; Check_prices: https://www.snapeda.com/parts/532610671/Molex/view-part/?ref=eda; Value: *; Purchase-URL: https://pricing.snapeda.com/search/part/532610671/?ref=eda; Digi-Key_Part_Number: WM7624TR-ND; SnapEDA_Link: https://www.snapeda.com/parts/532610671/Molex/view-part/?ref=snap; Package: None; MP: 532610671; Supplier 1: Digi-Key; ComponentLink1Description: CONN HEADER SMD R/A 6POS 1.25MM; ComponentLink1URL: https://www.digikey.com/es/products/detail/0532610671/WM7624DKR-ND/1846792?utm_campaign=buynow&utm_medium=aggregator&curr=usd&utm_source=octopart; Link: https://www.digikey.com/es/products/detail/0532610671/WM7624DKR-ND/1846792?utm_campaign=buynow&utm_medium=aggregator&curr=usd&utm_source=octopart
footprint MOLEX_532610671
pins: 1, 2, 3, 4, 5, 6, S1 SHIELD1, S2 SHIELD2

## CONN_TERM_2_3.81MM_VERTICAL
designator J?, comment TBP02R2-381-02BE
2 Bloque de terminales de posición Cabecera, clavija macho, protegida (4 lados) 0.150" (3.81mm) Vertical Orificio pasante; Digi_Key_Part_Number: 102-6492-ND; Price: 0,61; ComponentLink1Description: TERMINAL BLOCK, PLUGGABLE, 3.81,; ComponentLink1URL: https://www.digikey.com/es/products/detail/same-sky-formerly-cui-devices/TBP02R2-381-02BE/10238469; Link: https://www.digikey.com/es/products/detail/same-sky-formerly-cui-devices/TBP02R2-381-02BE/10238469; LCSC Part: C8396; Price JLCPCB: 0,02; Value: TBP02R2-381-02BE
footprint SHDR2W80P0X381_1X2_841X720X920P
pins: 1, 2

## CONN_TERM_3_3.81MM_VERTICAL
designator J?, comment TBP02R2-381-03BE
3 Bloque de terminales de posición Cabecera, clavija macho, protegida (4 lados) 0.150" (3.81mm) Vertical Orificio pasante; Digi_Key_Part_Number: 102-6493-ND; Price: 0,74; ComponentLink1Description: TERMINAL BLOCK, PLUGGABLE, 3.81,VERTICAL; ComponentLink1URL: https://www.digikey.com/es/products/detail/same-sky-formerly-cui-devices/TBP02R2-381-03BE/10238470; Link: https://www.digikey.com/es/products/detail/same-sky-formerly-cui-devices/TBP02R2-381-03BE/10238470; LCSC Part: C387814; Price JLCPCB: 0,04; Value: TBP02R2-381-03BE
footprint CUI_TBP02R2-381-03BE
pins: 1, 2, 3

## CONN_TERM_4_3.81mm_VERTICAL
designator J?, comment TBP02R2-381-04BE
4 Bloque de terminales de posición Cabecera, clavija macho, protegida (4 lados) 0.150" (3.81mm) Vertical Orificio pasante; Digi_Key_Part_Number: 102-6494-ND; Price: 0.82; ComponentLink1Description: TERMINAL BLOCK, PLUGGABLE, 3.81,; ComponentLink1URL: https://www.digikey.com/es/products/detail/same-sky-formerly-cui-devices/TBP02R2-381-04BE/10238471; Link: https://www.digikey.com/es/products/detail/same-sky-formerly-cui-devices/TBP02R2-381-04BE/10238471; LCSC Part: C8410; Price JLCPCB: 0,05; Value: TBP02R2-381-04BE
footprint CUI_TBP02R2-381-04BE
pins: 1, 2, 3, 4

## CONN_TERM_5_3.81mm_VERTICAL
designator J?, comment 1803455  (value not drawn)
5 Bloque de terminales de posición Cabecera, clavija macho, protegida (4 lados) 0.150" (3.81mm) Vertical Orificio pasante; Digi_Key_Part_Number: 277-1224-ND; Price: 2,38; Link: https://www.digikey.com/es/products/detail/phoenix-contact/1803455/260592; LCSC Part: C8391; Price JLCPCB: 0,06; ComponentLink1Description: TERM BLOCK HDR 5POS 3.81MM; ComponentLink1URL: https://www.digikey.com/es/products/detail/phoenix-contact/1803455/260592
footprint PHOENIX_1803455
pins: 1, 2, 3, 4, 5

## CONN_TERM_HDR_2_3.81mm
designator P?, comment value 1803277  (hidden comment: 277-1206-ND)
2 Position Terminal Block Header, Male Pins, Shrouded (4 Side) 0.150" (3.81mm) 90°, Right Angle Through Hole; Link: https://www.digikey.com/en/products/detail/phoenix-contact/1803277/260574; ComponentLink1Description: TERM BLOCK HDR 2POS 90DEG 3.81MM; ComponentLink1URL: https://www.digikey.com/es/products/detail/phoenix-contact/1803277/260574?s=N4IgTCBcDa4OxwLQEYwAYBsiByAREAugL5A; Digi_Key_Part_Number: 277-1206-ND; Price: 0,59; LCSC Part: C8387; Price JLCPCB: 0,2
footprint PHOENIX_1803277
pins: 1, 2

## CONN_TERM_HDR_3_3.81mm
designator J?, comment 284513-3  (value not drawn)
3 Bloque de terminales de posición Cabecera, clavija macho, protegida (4 lados) 0.150" (3.81mm) 90°, ángulo recto Orificio pasante; Digi_Key_Part_Number: A98402-ND; Value: 284513-3; Price: 1,31; Link: https://www.digikey.com/en/products/detail/te-connectivity-amp-connectors/284513-3/1153286; ComponentLink1Description: TERM BLOCK HDR 3POS 90DEG 3.81MM; ComponentLink1URL: https://www.digikey.com/es/products/detail/te-connectivity-amp-connectors/284513-3/1153286?s=N4IgTCBcDaIIIE4AcAWADGAtAOQCIgF0BfIA; LCSC Part: C387816; Price JLCPCB: 0,05
footprint TE_284513-3
pins: 1, 2, 3

## CONN_TERM_HDR_4_3.81mm
designator J?, comment 284513-4
4 Bloque de terminales de posición Cabecera, clavija macho, protegida (4 lados) 0.150" (3.81mm) 90°, ángulo recto Orificio pasante; Digi_Key_Part_Number: A98403-ND; Price: 0,79; Link: https://www.digikey.com/en/products/detail/te-connectivity-amp-connectors/284513-4/1136751; ComponentLink1Description: TERM BLOCK HDR 4POS 90DEG 3.81MM; ComponentLink1URL: https://www.digikey.com/es/products/detail/te-connectivity-amp-connectors/284513-4/1136751?s=N4IgTCBcDaIIIE4AcAWADAZgLQDkAiIAugL5A; ComponentLink2Description: TERM BLOCK HDR 4POS 90DEG 3.81MM; ComponentLink2URL: https://www.digikey.com/es/products/detail/te-connectivity-amp-connectors/284513-4/1136751; Price JLCPCB: 0,05; LCSC Part: C7245; Value: 284513-4
footprint TE_284513-4
pins: 1, 2, 3, 4

## CONN_TERM_HDR_5_3.81mm
designator J?, comment 1803303  (value not drawn)
5 Bloque de terminales de posición Cabecera, clavija macho, protegida (4 lados) 0.150" (3.81mm) 90°, ángulo recto Orificio pasante; Digi_Key_Part_Number: 277-1209-ND; Price: 2,38; Link: https://www.digikey.com/es/products/detail/phoenix-contact/1803303/260577; ComponentLink1Description: TERM BLOCK HDR 5POS 3.81MM; ComponentLink1URL: https://www.digikey.com/es/products/detail/phoenix-contact/1803303/260577; LCSC Part: C8395; Price JLCPCB: 0,06
footprint CONN_1803303_PXC
pins: 1, 2, 3, 4, 5

## CONN_TERML_3.50MM_OSTTE020104
designator P?, comment OSTTE020104
2 Bloques de terminales - Cable a placa Horizontal con placa 0.138" (3.50mm) Orificio pasante; Link: https://www.digikey.com/product-detail/en/on-shore-technology-inc/OSTTE020104/ED2740-ND/2351816?utm_source=snapeda&utm_medium=aggregator&utm_campaign=symbol; Price: 0,79; Digi-Key_Part_Number: ED2740-ND; ComponentLink1Description: TERM BLK 2POS SIDE ENT 3.5MM PCB; ComponentLink1URL: https://www.digikey.com/es/products/detail/on-shore-technology-inc/OSTTE020104/2351816; Value: OSTTE020104
footprint OST_OSTTE020104
pins: 1, 2

## CONN_TST-103-03-L-S
designator J?
Cabezal de conector Orificio pasante 3 posiciones 0.100" (2.54mm); MP: TST-103-03-L-S; Package: None; Price: None; Value: *; Availability: Unavailable; ComponentLink1Description: CONN HEADER VERT 3POS 2.54MM; ComponentLink1URL: https://www.digikey.com/es/products/detail/samtec-inc/TST-103-03-L-S/9497032?s=N4IgTCBcDaICoGU4FoCMAGAzMryAyyCIAugL5A; Link: https://www.digikey.com/es/products/detail/samtec-inc/TST-103-03-L-S/9497032?s=N4IgTCBcDaICoGU4FoCMAGAzMryAyyCIAugL5A; Digi-Key_Part_Number: TST-103-03-L-S-ND
footprint SAMTEC_TST-103-03-L-S
pins: 01, 02, 03

## CONN_USB4125-GF-A_REVA2
designator J?, comment USB4125-GF-A
USB-C (USB TYPE-C) Receptacle Connector 24 (6+18 Dummy) Position Surface Mount, Right Angle; Through Hole; Digi_Key_Part_Number: 2073-USB4125-GF-ACT-ND; Link: https://www.digikey.com/en/products/detail/gct/USB4125-GF-A/13547388; Price: 0,80; ComponentLink1Description: CONN RCPT TYPE C 6P SMD RA; ComponentLink1URL: https://www.digikey.com/en/products/detail/gct/USB4125-GF-A/13547388; Value: USB4125-GF-A
footprint GCT_USB4125-GF-A_REVA2
pins: A5 CC1 (io), A9 VBUS (power), A12 GND (power), B5 CC2 (io), B9 VBUS (power), B12 GND (power), S1 SHIELD, S2 SHIELD, S3 SHIELD, S4 SHIELD

## CONNDB9MACHO
designator J?, comment AE10968-ND  (value not drawn)
9 Posiciones D-Sub Clavija de conexión, clavijas macho Conector; Value: A-DS 09 A/KG-T2S; Price: 0,83; Link: https://www.digikey.com/es/products/detail/assmann-wsw-components/A-DS-09-A-KG-T2S/1241804?s=N4IgTCBcDaIIIFECMAGAnANgBwFoByAIiALoC%2BQA; Digi_Key_Part_Number: AE10968-ND; LCSC Part: C9900006534; Mouser Part: *; Price JLCPCB: 0,1; ComponentLink1Description: CONN D-SUB PLUG 9POS R/A SOLDER; ComponentLink1URL: https://www.digikey.com/es/products/detail/assmann-wsw-components/A-DS-09-A-KG-T2S/1241804?s=N4IgTCBcDaIIIFECMAGAnANgBwFoByAIiALoC%2BQA
footprint ASSMANN_A-DS_09_A_KG-T2S
pins: 1, 2, 3, 4, 5, 6, 7, 8, 9, SH1 SHIELD, SH2 SHIELD

## CRISTAL 8MHZ_ATS Type
designator Y1, comment 8MHz  Supplier Part Number 1: 1923-1529-2-ND
ATS Type Crystal; ComponentLink1Description: LFXTAL036274REEL; ComponentLink1URL: https://www.digikey.com/es/products/detail/iqd-frequency-products/LFXTAL036274REEL/8633816; Supplier 1: Digi-Key
footprint OSC-ATS Type (ATS Type Crystal)
pins: 1, 2

## CRISTAL _ABMM-8MHZ
designator Y1, comment 8MHz  Supplier Part Number 1: 1923-1529-2-ND
8 MHz ±20ppm Cristales 18pF 4-SMD, sin conductor; ComponentLink1Description: LFXTAL036274REEL; ComponentLink1URL: https://www.digikey.com/es/products/detail/iqd-frequency-products/LFXTAL036274REEL/8633816; Supplier 1: Digi-Key
footprint OSC_ABMM-8.000MHZ-B2-T
pins: 1, 2

## CRISTAL _FK135
designator Y1, comment 32KMHz  Supplier Part Number 1: 1923-1529-2-ND
CRYSTAL 32.7680KHZ 12.5PF SMD; ComponentLink1Description: LFXTAL036274REEL; ComponentLink1URL: https://www.digikey.com/es/products/detail/iqd-frequency-products/LFXTAL036274REEL/8633816; Supplier 1: Digi-Key
footprint CRYSTAL_0805
pins: 1, 2

## CRISTAL_32K
designator Y?  Supplier Part Number 2: 300-1003-ND
Manufacturer: ECS International; Manufacturer Part Number: ECS-200-20-3X-EN-TR; Frequency: 20MHz; Frequency Tolerance: 30ppm; Load Capacitance: 20pF; ESR (Equivalent Series Resistance): 50R; Frequency Stability: 50ppm; Supplier 1: Digi-Key; Stock 1: 16745; Pricing 1: 1=0.53, 10=0.44, 50=0.396, 100=0.352, 500=0.3344, 1000=0.2816 (USD); Mount: Surface Mount; Min Operating Temperature: -40°C; Max Operating Temperature: 85°C; Package Quantity: 1; Packaging: Tape and Reel; Tolerance: 30ppm; Termination: SMD/SMT; Length: 0.276inch; Height: 0.091inch; Width: 0.161inch; Lead Free: Lead Free; Supplier 2: Digi-Key; Stock 2: 1865; Pricing 2: 1=1.04, 10=0.92, 50=0.86, 100=0.76, 500=0.72, 1000=0.6, 2500=0.58, 5000=0.56, 10000=0.54 (USD); Case/Package: Radial
footprint OSC-CH206-RA
pins: 1, 2

## CRYSTAL
designator Y?  Supplier Part Number 1: XC1796CT-ND
Manufacturer: ECS International; Manufacturer Part Number: ECS-200-20-3X-EN-TR; Frequency: 20MHz; Frequency Tolerance: 30ppm; Load Capacitance: 20pF; ESR (Equivalent Series Resistance): 50R; Frequency Stability: 50ppm; Supplier 1: Digi-Key; Stock 1: 16745; Pricing 1: 1=0.53, 10=0.44, 50=0.396, 100=0.352, 500=0.3344, 1000=0.2816 (USD); Mount: Surface Mount; Min Operating Temperature: -40°C; Max Operating Temperature: 85°C; Package Quantity: 1; Packaging: Tape and Reel; Tolerance: 30ppm; Termination: SMD/SMT; Length: 0.276inch; Height: 0.091inch; Width: 0.161inch; Lead Free: Lead Free; ComponentLink1URL: http://www.ecsxtal.com/store/pdf/CSM-3X.pdf?src-supplier=Digi-Key; ComponentLink1Description: http://www.ecsxtal.com/store/pdf/CSM-3X.pdf?src-supplier=Digi-Key; ComponentLink2Description: ABLS7M2-25.000MHZ-D2Y-T; ComponentLink2URL: https://www.digikey.com/es/products/detail/abracon-llc/ABLS7M2-25-000MHZ-D2Y-T/5135064
footprint XTAL
pins: 1, 2

## DIODE 1N4148WT_SOD123
designator D?, comment value 1N4448W  (hidden comment: 1N4448W-FDICT-ND)
Diodos 75 V 250mA Montaje en superficie SOD-123; Digi_Key_Part_Number: 1N4448W-FDICT-ND; Link: https://www.digikey.com/es/products/detail/micro-commercial-co/1N4448W-TP/789330; ComponentLink2Description: DIODE GEN PURP 75V 250MA SOD123; ComponentLink2URL: https://www.digikey.com/es/products/detail/micro-commercial-co/1N4448W-TP/789330?s=N4IgTCBcDaIIwDkAsKAcB1AKgBQLIGUBhTAWgQBEQBdAXyA; Price: 0,11; LCSC Part: C124191; Mouser Part: 621-1N4448W-F; Price JLCPCB: 0,02
footprint DIOMELF3414N
pins: A 2, C 1

## DIODE 1N5819HW1-7-F
designator D?, comment value 1N5819HW1-7-F  (hidden comment: 1N5819HW1-7-FDICT-ND)
Diode Super Barrier 40 V 1A Surface Mount SOD-123F; Manufacturer: Diodes; Manufacturer Part Number: 1N5819HW-7-F; Forward Voltage: 450mV; Max Power Dissipation: 450mW; Peak Reverse Current: 50uA; Element Configuration: Single; Max Repetitive Reverse Voltage (Vrrm): 40V; Max Forward Surge Current (Ifsm): 25A; Polarity: Standard; Capacitance: 110pF; Case/Package: SOD-123-2; Number of Pins: 2; Weight: 0.000353oz; Contact Plating: Tin,Matte; Min Operating Temperature: -65°C; Max Operating Temperature: 125°C; Package Quantity: 3000; Forward Current: 1A; Packaging: Tape and Reel; Average Rectified Current: 1A; Peak Non-Repetitive Surge Current: 25A; Termination: SMD/SMT; Voltage Rating (DC): 40V; Current Rating: 1A; Output Current: 1A; Max Reverse Voltage (DC): 40V; Length: 2.85mm; Height: 1.25mm; Width: 1.7mm; Radiation Hardening: No; REACH SVHC: No SVHC; Lead Free: Lead Free; Supplier 1: Digi-Key; Digi_Key_Part_Number: 1N5819HW1-7-FDICT-ND; Link: https://www.digikey.com/en/products/detail/diodes-incorporated/1n5819hw1-7-f/5768523; ComponentLink7Description: DIODE SBR 40V 1A SOD123F; ComponentLink7URL: https://www.digikey.com/es/products/detail/diodes-incorporated/1N5819HW1-7-F/5768523?s=N4IgTCBcDaIIwDkCsAOOBOAEgdTgWgHY8AxAEQEkBhAFTwVJAF0BfIA; Supplier Part Number 1: 1N5819HW1-7-FDIDKR-ND; Price: 0,46
footprint DIODE DO-214AC
pins: 1, 2

## DIODE FM4004-W
designator D?, comment value S1GB-13-F  (hidden comment: 31-S1GB-13-FCT-ND)
Diodos 400 V 1A Montaje en superficie SMB; Manufacturer: ON Semiconductor / Fairchild; MF: ON Semiconductor; MP: 1N4007; Forward Voltage: 1.1V; Polarity: Standard; Peak Non-Repetitive Surge Current: 30A; Element Configuration: Single; Voltage Rating (DC): 1kV; Capacitance: 15pF; Peak Reverse Current: 5uA; Power Dissipation: 3W; Price: 0,25; Package: DO-41 Good-Ark; Availability: Unavailable; SnapEDA_Link: https://www.snapeda.com/parts/1N4007/ON%20Semiconductor/view-part/?ref=snap; Manufacturer Part Number: 1N4007; Mount: Through Hole; Number of Pins: 2; Weight: 0.245g; Contact Plating: Tin,Matte; Min Operating Temperature: -65°C; Max Operating Temperature: 175°C; Packaging: Tape and Reel; Current Rating: 1A; Output Current: 1A; Max Surge Current: 30A; Forward Current: 1A; Max Repetitive Reverse Voltage (Vrrm): 1kV; Max Forward Surge Current (Ifsm): 30A; Package Quantity: 1000; Reverse Voltage: 1kV; Average Rectified Current: 1A; Max Reverse Voltage (DC): 1kV; Diameter: 2.72mm; Length: 5.2mm; Height: 5.2mm; Width: 2.72mm; Radiation Hardening: No; REACH SVHC: No SVHC; Lead Free: Lead Free; Supplier 1: Digi-Key; ComponentLink4Description: DIODE GEN PURP 400V 1A SMB; ComponentLink4URL: https://www.digikey.com/es/products/detail/diodes-incorporated/S1GB-13-F/814409?s=N4IgTCBcDaIMwEYC0BlBBxAQkhckDEBhAFSQDkAREAXQF8g; Link: https://www.digikey.com/es/products/detail/diodes-incorporated/S1GB-13-F/814409?s=N4IgTCBcDaIMwEYC0BlBBxAQkhckDEBhAFSQDkAREAXQF8g; Digi_Key_Part_Number: 31-S1GB-13-FCT-ND; Supplier Part Number 1: 2516-FM4004W-WTR-ND
footprint DIODE DO-214AC
pins: 1, 2

## DIODE ZENER 12V 1.5W DO214AC
designator CR?, comment 1SMA5927_R1_00001
Diodo - Zener 12 V 1.5 W ±5% Montaje en superficie DO-214AC (SMA); Digi_Key_Part_Number: 3757-1SMA5927_R1_00001CT-ND; Link: https://www.digikey.com/es/products/detail/panjit-international-inc/1SMA5927-R1-00001/15801773; Price: 0,23; JLCPCB Part: C313128; ComponentLink1Description: DIODE ZENER 12V 1.5W DO214AC; ComponentLink1URL: https://www.digikey.com/es/products/detail/panjit-international-inc/1SMA5927-R1-00001/15801773; Value: 1SMA5927_R1_00001
footprint SMA_DIO-M
pins: 1 K, 2 A

## Diode_3A_SMA_B320A-13-F
designator D?, comment B320AE-13
Diodos 20 V 3A Montaje en superficie SMA; Digi_Key_Part_Number: B320AE-13DICT-ND; ComponentLink1Description: DIODE SCHOTTKY 20V 3A SMA; ComponentLink1URL: https://www.digikey.com/es/products/detail/diodes-incorporated/B320AE-13/8545849; Link: https://www.digikey.com/es/products/detail/diodes-incorporated/B320AE-13/8545849; Price: 0,26; LCSC Part: C110484; Mouser Part: 621-B320AE-13; Price JLCPCB: 0,09; Value: B320AE-13
footprint DIOM5226X230N
pins: 1 K, 2 A

## DIODE_Bridge_400V_3A_YBS3004G
designator D?, comment YBS3004G
Rectificador de puente Single Phase Estándar 400 V Montaje en superficie YBS; Digi_Key_Part_Number: YBS3004GCT-ND; Price: 0,73; ComponentLink1Description: BRIDGE RECT 1PHASE 400V 3A YBS; ComponentLink1URL: https://www.digikey.com/es/products/detail/taiwan-semiconductor-corporation/YBS3004G/9603222?s=N4IgTCBcDaIJoCEDKBmADGgLAcQMIBUBaAOQBEQBdAXyA; Link: https://www.digikey.com/es/products/detail/taiwan-semiconductor-corporation/YBS3004G/9603222?s=N4IgTCBcDaIJoCEDKBmADGgLAcQMIBUBaAOQBEQBdAXyA; LCSC Part: C393522; Price JLCPCB: 0,11; Mouser Part: 821-YBS3004G; Value: YBS3004G
footprint DIOB_YBS3004G
pins: 1 POS, 2 NEG, 3 AC1, 4 AC2

## Diode_Bridge_DF01SA-E3_45
designator BR?, comment DF01S-T
Rectificador de puente Single Phase Estándar 100 V Montaje en superficie DF-S; Digi_Key_Part_Number: DF01S-TDICT-ND; ComponentLink1Description: BRIDGE RECT 1PHASE 100V 1A DF-S; ComponentLink1URL: https://www.digikey.com/es/products/detail/diodes-incorporated/DF01S-T/1934939; Link: https://www.digikey.com/es/products/detail/diodes-incorporated/DF01S-T/1934939; Price: 0,61; JLCPCB Part: C110491; Value: DF01S-T
footprint SOP510P1005X363-4N
pins: 1 +, 2 ~_2, 3 -, 4 ~_1

## Diode_DF2S6.2FSL3M_SOD923
designator D?
TVS DIODE 5VWM SOD923; MF: ON Semiconductor; MP: ESD9X5.0ST5G; Availability: Unavailable; Value: *; Package: SOD-923 ON Semiconductor; Price: None; SnapEDA_Link: https://www.snapeda.com/parts/ESD9X5.0ST5G/ON%20Semiconductor/view-part/237761/?ref=snap
footprint SODFL1006X43N
pins: A, C K

## DIODE_MUR120RLG
designator D?, comment MUR120RLGOSCT-ND
Diodos 200 V 1A Orificio pasante Axial; Manufacturer: Diodes; Manufacturer Part Number: 1N5819HW-7-F; Forward Voltage: 450mV; Max Power Dissipation: 450mW; Peak Reverse Current: 50uA; Element Configuration: Single; Max Repetitive Reverse Voltage (Vrrm): 40V; Max Forward Surge Current (Ifsm): 25A; Polarity: Standard; Capacitance: 110pF; Max Surge Current: 35A; Recovery Time: 35ns; Reverse Voltage: 200V; Natural Thermal Resistance: 87°C/W; Supplier 1: Digi-Key; Stock 1: 378269; Pricing 1: 1=0.45, 10=0.333, 100=0.1884, 500=0.1248, 1000=0.09568 (USD); Case/Package: SOD-123-2; Number of Pins: 2; Weight: 0.000353oz; Contact Plating: Tin,Matte; Min Operating Temperature: -65°C; Max Operating Temperature: 125°C; Package Quantity: 3000; Forward Current: 1A; Packaging: Tape and Reel; Average Rectified Current: 1A; Peak Non-Repetitive Surge Current: 25A; Termination: SMD/SMT; Voltage Rating (DC): 40V; Current Rating: 1A; Output Current: 1A; Max Reverse Voltage (DC): 40V; Length: 2.85mm; Height: 1.25mm; Width: 1.7mm; Radiation Hardening: No; REACH SVHC: No SVHC; Lead Free: Lead Free; Supplier 2: Digi-Key; Stock 2: 1733; Pricing 2: 1=0.39, 10=0.29, 100=0.138, 500=0.1223, 1000=0.09518, 2500=0.08709 (USD); Reverse Recovery Time: 35ns; Halogen Free: Halogen Free; ComponentLink1Description: DIODE GEN PURP 200V 1A AXIAL; ComponentLink1URL: https://www.digikey.com/es/products/detail/onsemi/MUR120RLG/919897?s=N4IgTCBcDaILYFcBOBGMAGJAbA5gewGcBjAFwFoA7AExAF0BfIA; Digi_Key_Part_Number: MUR120RLGOSCT-ND; Link: https://www.digikey.com/es/products/detail/onsemi/MUR120RLG/919897?s=N4IgTCBcDaILYFcBOBGMAGJAbA5gewGcBjAFwFoA7AExAF0BfIA#mktPlaceViewSection; Supplier Part Number 2: MUR120RLGOSCT-ND
footprint DIODE1N4007(Primary)
pins: 1, 2

## DIODE_SCHOTTKY_BAT60AE6327HTSA1
designator D?, comment BAT60AE6327HTSA1
DIODE SCHOTTKY 10 V 3A Surface Mount PG-SOD323-2; Manufacturer_Name: Infineon; Digi_Key_Part_Number: BAT60AE6327HTSA1CT-ND; Datasheet Link: https://www.infineon.com/dgdl/Infineon-BAT60ASERIES-DS-v01_01-en.pdf?fileId=db3a304313d846880113def70c9304a9; Height: 1.1mm; Manufacturer_Part_Number: BAT60AE6327HTSA1; Mouser Part Number: 726-BAT60AE6327HTSA1; Mouser Price/Stock: https://www.mouser.co.uk/ProductDetail/Infineon-Technologies/BAT60AE6327HTSA1?qs=OwbwYO03UsIW3Y2lCXbs8Q%3D%3D; Arrow Part Number: BAT60AE6327HTSA1; Arrow Price/Stock: https://www.arrow.com/en/products/bat60ae6327htsa1/infineon-technologies-ag?region=nac; ComponentLink1Description: BAT60AE6327HTSA1; ComponentLink1URL: https://www.digikey.com/en/products/detail/infineon-technologies/BAT60AE6327HTSA1/1557845; Link: https://www.digikey.com/en/products/detail/infineon-technologies/BAT60AE6327HTSA1/1557845; Value: BAT60AE6327HTSA1
footprint SOD2513X110N
pins: 1 K, 2 A

## Diode_SS23_DO-214AA
designator D?, comment SS23B230-FDICT-ND  (value not drawn)
Diode 30 V 2A Surface Mount DO-214AA (SMB); MP: SS23; Value: DIODE SCHOTTKY 30V 2A DO214AA; Availability: Unavailable; Price: None; Package: None; Link: https://www.digikey.com/en/products/detail/diodes-incorporated/B230-13-F/815328; Digi-Key_Part_Number: B230-FDICT-ND; ComponentLink1Description: DIODE SCHOTTKY 30V 2A SMB; ComponentLink1URL: https://www.digikey.com/en/products/detail/diodes-incorporated/B230-13-F/815328
footprint DIOM4336X265N
pins: A, C K

## DIODE_TVS_19.9V
designator D?, comment Supplier Part Number 1: SMBJ12CAFSDKR-ND  (hidden comment: SMBJ12CAFSCT-ND)
19.9V Abrazadera 30.2 A Ipp TVS - Diodos Montaje en superficie DO-214AA (SMB); MF: Taiwan Semiconductor Corporation; MP: SMF18A RQG; Purchase-URL: https://pricing.snapeda.com/search/part/SMF18A RQG/?ref=eda; Price: None; Check_prices: https://www.snapeda.com/parts/SMF18A%20RQG/Taiwan+Semiconductor/view-part/?ref=eda; SnapEDA_Link: https://www.snapeda.com/parts/SMF18A%20RQG/Taiwan+Semiconductor/view-part/?ref=snap; Availability: In Stock; Value: *; Package: None; Supplier 1: Digi-Key; ComponentLink1Description: TVS DIODE 12VWM 19.9VC DO214AA; ComponentLink1URL: https://www.digikey.com/es/products/detail/taiwan-semiconductor-corporation/SMBJ12CA/1050224?s=N4IgTCBcDaIMoFkBCApAjGAwgQQGJ0wBUBaAOQBEQBdAXyA; Link: https://www.digikey.com/es/products/detail/taiwan-semiconductor-corporation/SMBJ12CA/1050224?s=N4IgTCBcDaIMoFkBCApAjGAwgQQGJ0wBUBaAOQBEQBdAXyA; Digi_Key_Part_Number: SMBJ12CAFSCT-ND
footprint SODFL3718X102N
pins: 1 C, 2 A

## DIODE_TVS_26V_SOT23-3
designator D?, comment value CDSOT23-SM712  (hidden comment: CDSOT23-SM712CT-ND)
26V, 14V Abrazadera 17 A (8/20µs) Ipp TVS - Diodos Montaje en superficie SOT-23-3; MF: Bourns; Check_prices: https://www.snapeda.com/parts/CDSOT23-SM712/Bourns+-+J.W.+Miller/view-part/?ref=eda; Availability: In Stock; MP: CDSOT23-SM712; Price: 2,11; Package: SOT-23 Bourns; SnapEDA_Link: https://www.snapeda.com/parts/CDSOT23-SM712/Bourns+-+J.W.+Miller/view-part/?ref=snap; Purchase-URL: https://pricing.snapeda.com/search/part/CDSOT23-SM712/?ref=eda; Supplier 1: Digi-Key; Link: https://www.digikey.com/es/products/detail/CDSOT23-SM712/CDSOT23-SM712DKR-ND/1630622?utm_campaign=buynow&utm_medium=aggregator&curr=usd&utm_source=octopart; Digi_Key_Part_Number: CDSOT23-SM712CT-ND; ComponentLink1Description: TVS DIODE 7V/12V 14V/26V SOT23-3; ComponentLink1URL: https://www.digikey.com/es/products/detail/CDSOT23-SM712/CDSOT23-SM712DKR-ND/1630622?utm_campaign=buynow&utm_medium=aggregator&curr=usd&utm_source=octopart; Supplier Part Number 1: CDSOT23-SM712DKR-ND
footprint SOT23-3
pins: 1 P$1, 2 P$2, 3 P$3